# EAGLE library part 428542320811 (library Wurth_Elektronik_Electromechanic_Switch_rev15d)
WS-RAS, 7x7 mm washable SMT Rotary Switch, 6 pins, 10 positions, round Arrow type, orange actuator, complement code
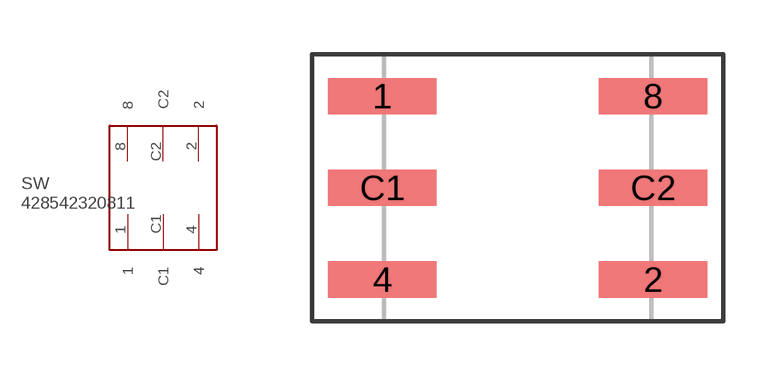
[diagram p152: symbol with the pads of 428542320811; footprint 428542320811]

Designator prefix SW

## 428542320811  [428542320811]
1  1
2  2
4  4
8  8
C1  C1
C2  C2

## Footprint 428542320811 (pad centres in mm)
WS-RAS, 7x7 mm washable SMT Rotary Switch, 6 pins, 10 positions, round Arrow type, orange actuator, complement code
smd 3 x 1: 1 -3.75,2.54; 2 3.75,-2.54; 4 -3.75,-2.54; 8 3.75,2.54; C1 -3.75,0; C2 3.75,0